# Altium schematic symbol library gsm_pcb_antenna.SchLib: 1 symbol
Pins are listed as number, name and electrical type; pins without a type are passive.

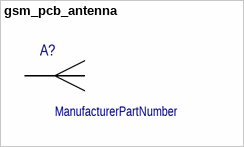
[diagram p0: symbol gsm_pcb_antenna]

## gsm_pcb_antenna
designator A?  (value not drawn)  (no BOM)
ManufacturerPartNumber: ManufacturerPartNumber
pins: 1